# EAGLE library part 233-503/000-006 (library con-wago_233)
Serie 233, Stand: 01.01.2012. Die jeweils aktuellen Daten zu diesem Artikel finden Sie in unserem Produktkatalog, den Sie unter www.wago.com einsehen können. As of: 01/01/2012. Please find the newest data for this article in our product catalogue, which can be viewed under www.wago.com.
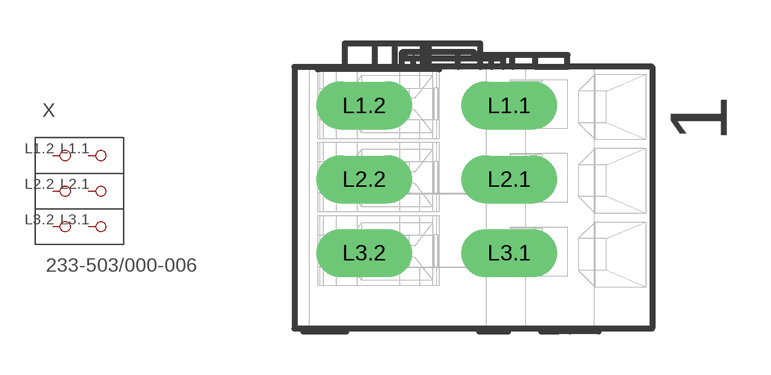
[diagram p198: symbol with the pads of P-233-503; footprint P-233-503]

Designator prefix X

## 233-503/000-006  [P-233-503]
L1.1  P1.1
L1.2  P1.2
L2.1  P2.1
L2.2  P2.2
L3.1  P3.1
L3.2  P3.2

## Footprint P-233-503 (pad centres in mm)
drill 1.1 long: L1.1 1.238,2.82; L1.2 -3.762,2.82; L2.1 1.238,0.28; L2.2 -3.762,0.28; L3.1 1.238,-2.26; L3.2 -3.762,-2.26